# Altium schematic symbol library 22032041.SchLib: 1 symbol
Pins are listed as number, name and electrical type; pins without a type are passive.

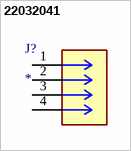
[diagram p0: symbol 22032041]

## 22032041
designator J?
KK 254 Wire to Board Header, Single Row, Vertical, 4 Circuits | Molex Incorporated 22-03-2041; SnapEDA_Link: https://www.snapeda.com/parts/22-03-2041/Molex/view-part/?ref=snap; Package: None; Value: *; MF: Molex; MP: 22-03-2041; Check_prices: https://www.snapeda.com/parts/22-03-2041/Molex/view-part/?ref=eda
footprint CONN_SD-4030-0001_04_MOL
pins: 1, 2, 3, 4